# EAGLE library part EAM86 (library radiotubes)
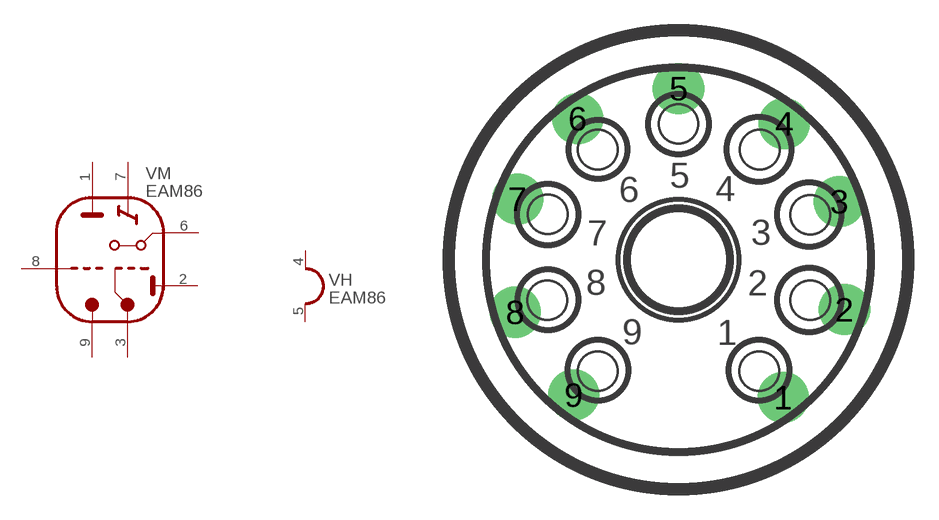
[diagram p88: symbol with the pads of NOVAL; footprint NOVAL]

Designator prefix V; gates M=EAM86_SY H=HEATER_1

## EAM86  [NOVAL]
1  M:AT  pas
2  M:AD  pas
3  M:K_LD  pas
4  H:H1  pas
5  H:H2  pas
6  M:ST  pas
7  M:L  pas
8  M:GT  pas
9  M:KT  pas

## Footprint NOVAL (pad centres in mm)
drill 1.422 pad 2.54: 1 5.207,-6.858; 2 8.254,-2.484; 3 8.004,2.893; 4 5.258,6.77; 5 0,8.524; 6 -5.004,7.024; 7 -8.004,3.02; 8 -8.127,-2.611; 9 -5.207,-6.731